# EAGLE library part MAX6734A (library NASA_LIB)
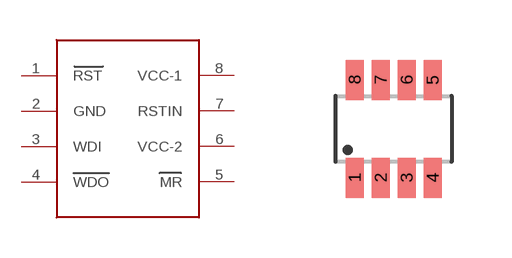
[diagram p3: symbol with the pads of SOT23-8L; footprint SOT23-8L]

Designator prefix -

## MAX6734A  [SOT23-8L]
1  RST
2  GND
3  WDI
4  WDO
5  MR
6  VCC-2
7  RSTIN
8  VCC-1

## Footprint SOT23-8L (pad centres in mm)
smd 0.45 x 1: 1 -0.975,-1.225; 2 -0.325,-1.225; 3 0.325,-1.225; 4 0.975,-1.225; 5 0.975,1.225; 6 0.325,1.225; 7 -0.325,1.225; 8 -0.975,1.225